# Altium integrated library Smd Micro Push button Switch 2P 3x6x2.5mm.IntLib: 1 symbol
Pins are listed as number, name and electrical type; pins without a type are passive.

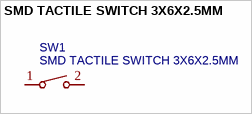
[diagram p0: symbol SMD TACTILE SWITCH 3X6X2.5MM]

## SMD TACTILE SWITCH 3X6X2.5MM
designator SW1
Manufacturer: USAKRO; Manufacturer Part: UK-B0240-R-250; Contributor: LCSC; Supplier: LCSC; Supplier Part: C556660; spicePre: S; spiceSymbolName: SMD TACTILE SWITCH 3X6X2.5MM
footprint SW-SMD_L6.0-W3.5-LS8.0
pins: 1, 2